# Altium schematic symbol library Sensor Package.SchLib: 91 symbols
Pins are listed as number, name and electrical type; pins without a type are passive.

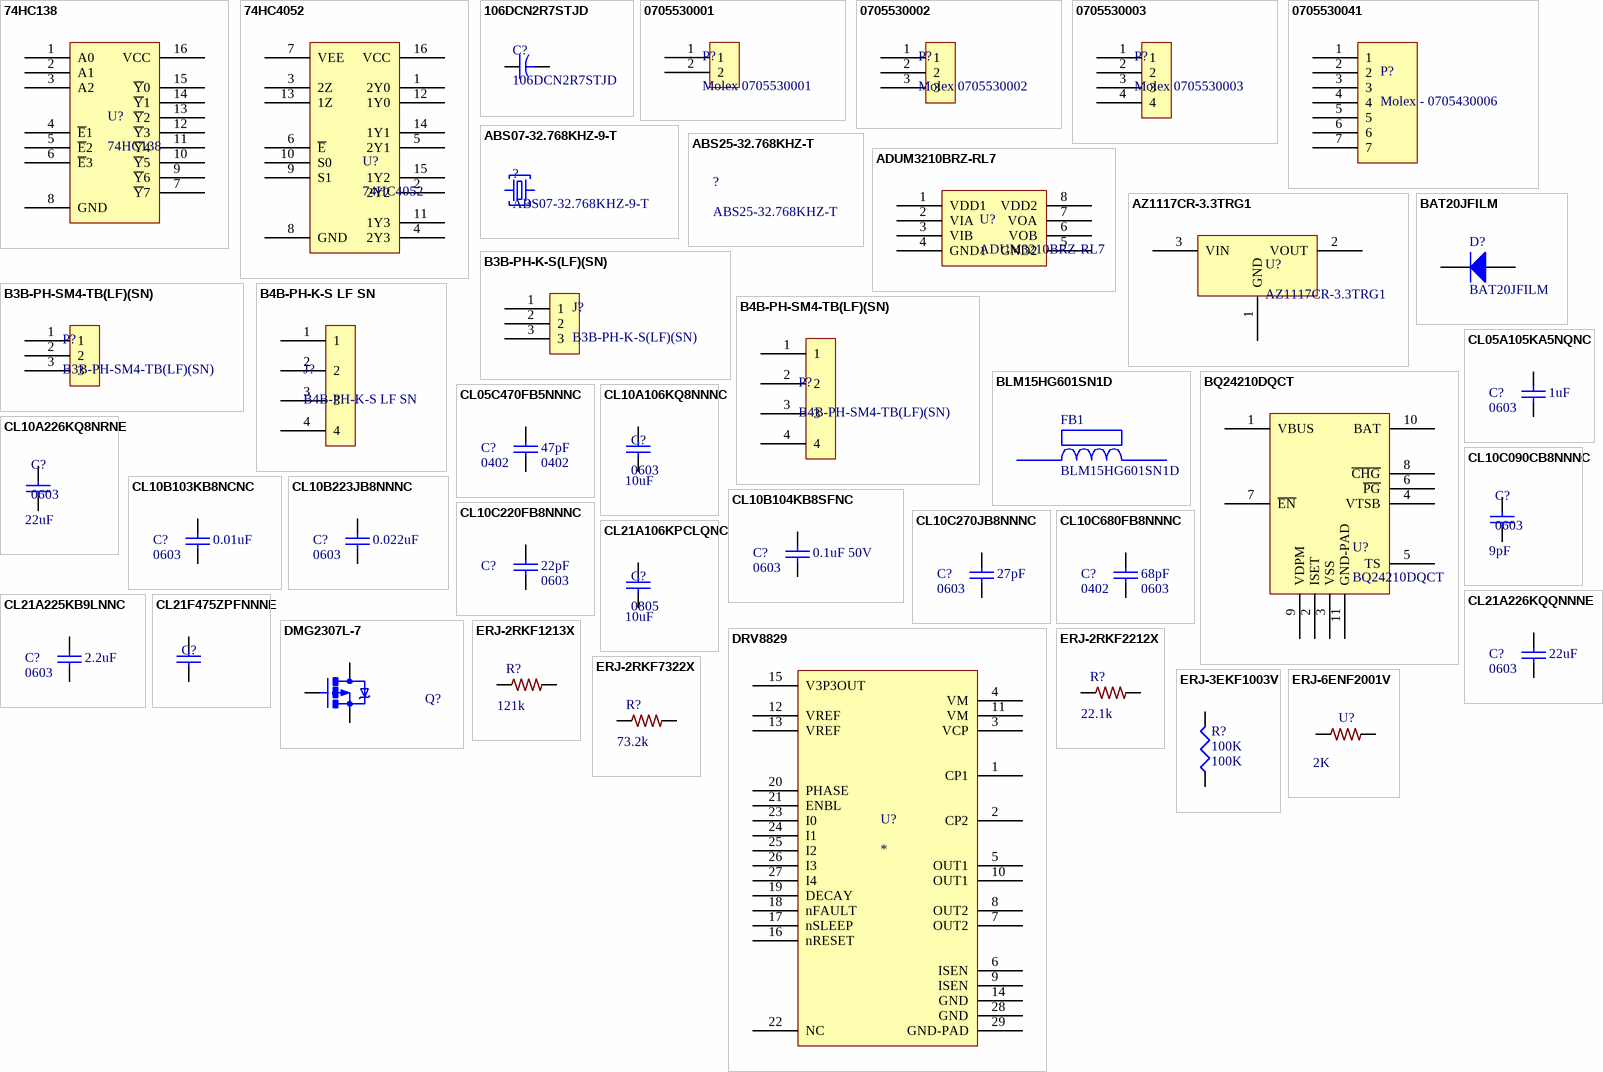
[diagram p0: symbols 74HC138 to ERJ-6ENF2001V]

## 74HC138
designator U?
3-to-8 line decoder/demultiplexer; inverting
footprint 74HC138 (SOIC, 16-Leads, Body 9.90x3.90mm, Pitch 1.27mm, IPC Medium Density)
pins: 1 A0, 2 A1, 3 A2, 4 ~{E}1, 5 ~{E}2, 6 ~{E}3, 7 ~{Y}7, 8 GND, 9 ~{Y}6, 10 ~{Y}5, 11 ~{Y}4, 12 ~{Y}3, 13 ~{Y}2, 14 ~{Y}1, 15 ~{Y}0, 16 VCC

## 74HC4052
designator U?
Dual 4-channel analog multiplexer/demultiplexer; MFR: NXP; Mouting Type: SMT; MFR#: 74HC4052; Type: 74 logic, analog mulitplexer/demultiplexer; Datasheet: http://www.nxp.com/documents/data_sheet/74HC_HCT4052.pdf
footprint 74HC4052 (SOIC, 16-Leads, Body 9.90x3.90mm, Pitch 1.27mm, IPC Medium Density)
pins: 1 2Y0, 2 2Y2, 3 2Z, 4 2Y3, 5 2Y1, 6 ~{E}, 7 VEE, 8 GND, 9 S1, 10 S0, 11 1Y3, 12 1Y0, 13 1Z, 14 1Y1, 15 1Y2, 16 VCC

## 106DCN2R7STJD
designator C?
CAP 10F -20%, +50% 2.7V T/H; MFR: Illinois Capacitor; Pin Count #: 2; Tolerance: 20%; Type: Super Capacitor; Lead-Free ?: Yes; Voltage: 2.7VDC; Designer: Adam Vadala-Roth; MFR #: 106DCN2R7STJD; Status: Available - Digikey; Mounting: Through hole; Datasheet: http://www.illinoiscapacitor.com/pdf/seriesDocuments/DCN%20series.pdf; Height: 27mm; Cost: $0.811; Date Created: 25 Feb 2016; Last Modified: 25 Feb 2016
footprint 106DCN2R7STJD
pins: 1, 2

## 0705530001
designator P?, comment Molex 0705530001
Molex 0705530002 Right Angle 2.54mm Shrouded Header; MFR: Molex; MFR#: 0705530001; Type: 2.54mm shrouded 2 pin right angle throughhole connector; Digikey #: WM4900-ND
footprint 0705530001
pins: 1, 2

## 0705530002
designator P?, comment Molex 0705530002
Molex 0705530002 Right Angle 2.54mm Shrouded Header; MFR: Molex; MFR#: 0705530002; Type: 2.54mm shrouded 3 pin right angle throughhole connector; Digikey #: WM4901-ND
footprint 0705530002
pins: 1, 2, 3

## 0705530003
designator P?, comment Molex 0705530003
Molex 0705530003 Right Angle 2.54mm Shrouded Header; MFR: Molex; MFR#: 0705530003; Type: 2.54mm shrouded 4 pin right angle throughhole connector; Digikey #: WM4902-ND
footprint 0705530003 (Molex 2.54mm 0705530003)
pins: 1, 2, 3, 4

## 0705530041
designator P?, comment Molex - 0705430006
0705530041; MFR: Molex; MFR#: 0705530041
footprint 0705530041 (Molex - 0705530041)
pins: 1, 2, 3, 4, 5, 6, 7

## ABS07-32.768KHZ-9-T
designator ?
32.768kHz ±20ppm Crystal 9pF 70 kOhm -40°C ~ 85°C Surface Mount 2-SMD; MFR: Abracon LLC; Pin Count #: 2; Lead-Free ?: Yes; Designer: Adam Vadala-Roth; MFR #: ABS07-32.768KHZ-9-T; Status: Active; Mounting: SMT/SMD; Datasheet: http://www.abracon.com/Resonators/ABS07.pdf; Height: 2.5mm; Tolerance: ±20ppm; Cost: 0.18000 @ 3K; Type: Crystal Oscillator; Voltage: *; Date Created: 11 Mar 2016; Last Modified: 11 Mar 2016; Value: *; Loading Capacitance: 9pF
footprint ABS07-32.768KHZ-9-T (Two Pin Crystal Oscilator)
pins: 1 C1, 2 C2

## ABS25-32.768KHZ-T
designator ?
32.768kHz ±20ppm Crystal 12.5pF 50 kOhm -40°C ~ 85°C Surface Mount 4-SOJ, 5.50mm pitch; MFR: Abracon LLC; Pin Count #: 2; Lead-Free ?: Yes; Designer: Adam Vadala-Roth; MFR #: ABS25-32.768KHZ-T; Status: Active; Mounting: SMT/SMD; Datasheet: http://www.abracon.com/Resonators/abs25.pdf; Height: 2.5mm; Tolerance: ±20ppm; Cost: 0.18000 @ 3K; Type: Crystal Oscillator; Voltage: *; Date Created: 11 Mar 2016; Last Modified: 11 Mar 2016; Value: *; Loading Capacitance: 12.5pF

## ADUM3210BRZ-RL7
designator U?
DGTL ISO 2.5KV GEN PURP 8SOIC; MFR: Analog Devices; RHoS?: yes; MFR#: ADUM3210BRZ-RL7; Digikey #: ADUM3210BRZ-RL7CT-ND; Type: 8 pin SOIC; Revision Date: April 2015
footprint ADUM3210BRZ-RL7 (SOIC, 8-Leads, Body 4.90x3.90mm, Pitch 1.27mm, IPC Medium Density)
pins: 1 VDD1, 2 VIA, 3 VIB, 4 GND1, 5 GND2, 6 VOB, 7 VOA, 8 VDD2

## AZ1117CR-3.3TRG1
designator U?
IC REG LDO 3.3V 0.8A SOT89; MFR: Diodes Inc; Pin Count #: 4; Lead-Free ?: Yes; Voltage: 3V3; Designer: Adam Vadala-Roth; MFR #: AZ1117CR-3.3TRG1; Status: Active; Mounting: SMT/SMD; Datasheet: http://www.diodes.com/_files/datasheets/AZ1117C.pdf; Height: *; Tolerance: *; Cost: *; Type: LDO Voltage Regulator; Date Created: 8 Mar 2016; Last Modified: 8 Mar 2016
footprint AZ1117CR-3.3TRG1 - SOT89-150P410X160-3N (SOT89, 3-Leads, Body 4.50x2.45mm, Pitch 1.50mm, Lead Span 4.1mm, IPC Medium Density)
pins: 1 GND, 2 VOUT, 3 VIN

## B3B-PH-K-S(LF)(SN)
designator J?
CONN HEADER PH TOP 3POS 2MM; MFR: JST; Pin Count #: 2; Lead-Free ?: Yes; Designer: Adam Vadala-Roth; MFR #: B3B-PH-K-S(LF)(SN); Status: Available; Mounting: Throughhole; Datasheet: http://www.jst-mfg.com/product/pdf/eng/ePH.pdf; Height: *; Tolerance: *; Cost: $0.19; Type: Connector 2mm Pitch Shrouded Pin; Voltage: *; Date Created: 26 Feb 2016; Last Modified: 26 Feb 2016
footprint B3B-PH-K-S(LF)(SN)
pins: 1, 2, 3

## B3B-PH-SM4-TB(LF)(SN)
designator P?
CONN HEADER PH SIDE 3POS 2MM SMD; MFR: JST; Pin Count #: 2; Lead-Free ?: YEs; Designer: Adam Vadala-Roth; MFR #: B3B-PH-SM4-TB(LF)(SN); Status: Available; Mounting: SMT; Datasheet: http://www.jst-mfg.com/product/pdf/eng/ePH.pdf; Height: 6.6mm; Cost: 0.26; Type: 2mm Pith Shroaded Pin Male Header; Voltage: *; Date Created: 25 Feb 2016; Last Modified: 25 Feb 2016
footprint B3B-PH-SM4-TB(LF)(SN) (3 pin SMT connector)
pins: 1, 2, 3

## B4B-PH-K-S LF SN
designator J?
CONN HEADER PH TOP 4POS 2MM; MFR #: B4B-PH-K-S(LF)(SN); MFR: JST; Pin Count #: 2; Lead-Free ?: Yes; Designer: Adam Vadala-Roth; Status: Available; Mounting: Throughhole; Datasheet: http://www.jst-mfg.com/product/pdf/eng/ePH.pdf; Height: *; Tolerance: *; Cost: $0.24; Type: Connector 2mm Pitch Shrouded Pin; Voltage: *; Date Created: 26 Feb 2016; Last Modified: 26 Feb 2016
footprint B4B-PH-K-S(LF)(SN)
pins: 1, 2, 3, 4

## B4B-PH-SM4-TB(LF)(SN)
designator P?
CONN HEADER PH SIDE 4POS 2MM SMD; MFR: JST; Pin Count #: 2; Lead-Free ?: YEs; Designer: Adam Vadala-Roth; MFR #: B4B-PH-SM4-TB(LF)(SN); Status: Available; Mounting: SMT; Datasheet: http://www.jst-mfg.com/product/pdf/eng/ePH.pdf; Height: 6.6mm; Cost: 0.26; Type: 2mm Pith Shroaded Pin Male Header; Voltage: *; Date Created: 25 Feb 2016; Last Modified: 25 Feb 2016
footprint B4B-PH-SM4-TB(LF)(SN)
pins: 1, 2, 3, 4

## BAT20JFILM
designator D?
DIODE SCHOTTKY 23V 1A SOD323; MFR: ST Microelectronics; Designer: Adam J Valala-Roth; Published: 25 Feb 2016; LatestRevisionDate: 25 Feb 2016; Mounting: SMT; Publisher: Altium Limited; Package: DO-214-AB/SMC; 2 C-Bend Leads; Body 7.9 x 5.9 mm, inc. leads (LxW); MFR#: BAT20JFILM; Digikey #: 497-3381-1-ND; Height: *; Cost: $0.44
simulation model DIODE (Diode)
signal-integrity model Diode
footprint BAT20JFILM - DIOM1712X11N (Molded Diode, 2-Leads, Body 1.66x1.23mm, IPC Medium Density)
pins: 1 A, 2 K

## BLM15HG601SN1D
designator FB1
footprint BLM18PG121SN1D (Chip Inductor, 2-Leads, Body 1.0x0.5mm, IPC Medium Density)
pins: 1, 2

## BQ24210DQCT
designator U?
IC BATT CHARGER LI-ION 10WSON (VBUS and Solar Voltaic Cell); MFR: Texas Instruments; Pin Count #: 8; Lead-Free ?: Yes; Designer: Adam J Vadala-Roth; MFR #: BQ24210DQCT; Status: Active; Mounting: SMT/SMD; Datasheet: http://www.ti.com/lit/ds/symlink/bq24210.pdf; Height: 0.8mm; Tolerance: *; Cost: *; Type: Solar Battery charger; Voltage: *; Date Created: 6 Mar 2016; Last Modified: 6 Mar 2016
footprint bq24210 - QFN50P300X200X80-10N (QFN, 10-Leads, Body 3.00x2.00mm, Pitch 0.50mm, IPC Medium Density)
pins: 1 VBUS, 2 ISET, 3 VSS, 4 VTSB, 5 TS, 6 ~{PG}, 7 ~{EN}, 8 ~{CHG}, 9 VDPM, 10 BAT, 11 GND-PAD

## CL05A105KA5NQNC
designator C?, comment 0603  value 1uF
CAP CER 1UF 25V X5R 0402; MFR Part #: CL05A105KA5NQNC; MFR: Samsung; Tolerance: 1%; Voltage: 50VDC; Published: 22 - Feb - 2016; LatestRevisionDate: April 2015; Component Type: Chip Capacitor; Part Description: CAP CER 1UF 25V X5R 0402; Mounting Type: SMT 0603; Datasheet: http://www.samsungsem.com/kr/front/downloadcms.do?path=/kr/support/product-search/mlcc/__icsFiles/afieldfile/2014/11/05&fileName=S_CL10B223JB8NNNC.pdf; Height: 0.9mm; Digikey #: 1276-1445-1-ND; PackageReference: 0603
simulation model CAP (Semiconductor Capacitor)
signal-integrity model Cap Semi
footprint C0603
pins: 1, 2

## CL05C470FB5NNNC
designator C?, comment 0402  value 47pF
CAP CER 47PF 50V NP0 0402; MFR Part #: CL05C470FB5NNNC; MFR: Samsung; Part Description: CAP CER 10PF 50V 5% NP0 0402; Tolerance: 1%; Voltage: 50VDC; Published: 10 - Dec - 2014; LatestRevisionDate: 22 - Feb - 2016; LatestRevisionNote: HydroPWNics FOotprint added; Publisher: Ultimachine; Component Type: Chip Capacitor; Mounting Type: SMT 0402; Datasheet: http://www.samsungsem.com/global/front/downloadcms.do?path=%2F%2Fglobal%2F%2Fsupport%2F%2Flibrary%2F%2Fproduct-catalog%2F%2F__icsFiles%2F%2Fafieldfile%2F%2F2015%2F%2F11%2F%2F18&fileName=MLCC_1.pdf; Height: 0.50mm; PackageReference: 0402
simulation model CAP (Semiconductor Capacitor)
signal-integrity model Cap Semi
footprint C0402
pins: 1, 2

## CL10A106KQ8NNNC
designator C?, comment 0603  value 10uF
CAP CER 10UF 6.3V X5R 0603; MFR #: CL10A106KQ8NNNC; MFR: Samsung Electro-Mechanics America, Inc.; Pin Count #: 2; Tolerance: 10%; Type: Capacitor / Passive; Lead-Free ?: Yes; Designer: Adam Vadala-Roth; Status: Available; Mounting: SMT; Datasheet: http://www.samsungsem.com/kr/support/product-search/mlcc/__icsFiles/afieldfile/2015/08/14/S_CL10A106KQ8NNNC.pdf; Height: 0.9mm; Cost: $0.05145; Voltage: 6.3V; Date Created: 25 Feb 2016; Last Modified: 25 Feb 2016
footprint C0603
pins: 1, 2

## CL10A226KQ8NRNE
designator C?, comment 0603  value 22uF
CAP CER 22UF 6.3V X5R 0603; MFR #: CL10A226KQ8NRNE; MFR: Samsung Electro-Mechanics America, Inc.; Pin Count #: 2; Tolerance: 10%; Type: Capacitor / Passive; Lead-Free ?: Yes; Designer: Adam Vadala-Roth; Status: Available; Mounting: SMT; Datasheet: https://media.digikey.com/pdf/Data%20Sheets/Samsung%20PDFs/CL10A226KQ8NRNE_Spec.pdf; Height: 0.9mm; Cost: $0.07416 @ 3000; Voltage: 6.3V; Date Created: 25 Feb 2016; Last Modified: 25 Feb 2016
footprint C0603
pins: 1, 2

## CL10B103KB8NCNC
designator C?, comment 0603  value 0.01uF
CAP CER 10000PF 50V 10% X7R 0603; MFR Part #: CL10B103KB8NCNC; MFR: Samsung; Voltage: 50VDC; Published: 10 - Dec - 2014; LatestRevisionDate: April 2015; Component Type: Chip Capacitor; Part Description: CAP CER 10000PF 50V 10% X7R 0603; Mounting Type: SMT 0603; Datasheet: http://www.samsungsem.com/kr/front/downloadcms.do?path=/kr/support/product-search/mlcc/__icsFiles/afieldfile/2014/11/05&fileName=S_CL10B103KB8NCNC.pdf; Height: 0.9mm; Tolerance: 10%; Digikey #: 1276-1921-1-ND; PackageReference: 0603
simulation model CAP (Semiconductor Capacitor)
signal-integrity model Cap Semi
footprint C0603
pins: 1, 2

## CL10B104KB8SFNC
designator C?, comment 0603  value 0.1uF 50V
CAP CER 0.1UF 50V 10% X7R 0603; MFR Part #: CL10B104KB8SFNC; MFR: Samsung; Voltage: 50VDC; Published: 10 - Dec - 2014; LatestRevisionDate: April 2015; Component Type: Chip Capacitor; Part Description: CAP CER 0.1UF 50V 10% X7R 0603; Mounting Type: SMT 0603; Datasheet: http://www.samsungsem.com/kr/front/downloadcms.do?path=/kr/support/product-search/mlcc/__icsFiles/afieldfile/2014/11/05&fileName=S_CL10B104KB8SFNC.pdf; Height: 0.9mm; Tolerance: 10%; Digikey #: 1276-1936-1-ND; PackageReference: 0603
simulation model CAP (Semiconductor Capacitor)
signal-integrity model Cap Semi
footprint C0603
pins: 1, 2

## CL10B223JB8NNNC
designator C?, comment 0603  value 0.022uF
CAP CER 0.022UF 50V 5% X7R 0603; MFR Part #: CL10B223JB8NNNC; MFR: Samsung; Tolerance: 10%; Voltage: 50VDC; Published: 10 - Dec - 2014; LatestRevisionDate: April 2015; Component Type: Chip Capacitor; Part Description: CAP CER 0.022UF 50V 5% X7R 0603; Mounting Type: SMT 0603; Datasheet: http://www.samsungsem.com/kr/front/downloadcms.do?path=/kr/support/product-search/mlcc/__icsFiles/afieldfile/2014/11/05&fileName=S_CL10B223JB8NNNC.pdf; Height: 0.9mm; Digikey #: 1276-1996-1-ND; PackageReference: 0603
simulation model CAP (Semiconductor Capacitor)
signal-integrity model Cap Semi
footprint C0603
pins: 1, 2

## CL10C090CB8NNNC
designator C?, comment 0603  value 9pF
CAP CER 9PF 50V NP0 0603; MFR #: CL10C090CB8NNNC; MFR: Samsung Electro-Mechanics America, Inc.; Pin Count #: 2; Tolerance: 10%; Type: Capacitor / Passive; Lead-Free ?: Yes; Voltage: 6.3V; Designer: Adam Vadala-Roth; Status: Available; Mounting: SMT; Datasheet: http://www.samsungsem.com/kr/support/product-search/mlcc/__icsFiles/afieldfile/2015/06/03/CL10C090CB8NNNC.pdf; Height: 0.9mm; Cost: $0.00805 @ 4000; Date Created: 11 Mar 2016; Last Modified: 11 Mar 2016
footprint C0603
pins: 1, 2

## CL10C220FB8NNNC
designator C?, comment value 22pF  (hidden comment: 0603)  (mechanical)
CAP CER 22PF 50V NP0 0603; MFR Part #: CL10C220FB8NNNC; MFR: Samsung; Tolerance: 1%; Voltage: 50VDC; Published: 22 - Feb - 2016; LatestRevisionDate: 22 - Feb - 2016; LatestRevisionNote: HydroPWNics FOotprint added; Publisher: HydroPWNics; Component Type: Chip Capacitor; Part Description: CAP CER 22PF 50V NP0 0603; Mounting Type: SMT 0603; Datasheet: http://www.samsungsem.com/global/front/downloadcms.do?path=%2F%2Fglobal%2F%2Fsupport%2F%2Flibrary%2F%2Fproduct-catalog%2F%2F__icsFiles%2F%2Fafieldfile%2F%2F2015%2F%2F11%2F%2F18&fileName=MLCC_1.pdf; Height: 0.50mm; PackageReference: 0603
simulation model CAP (Semiconductor Capacitor)
signal-integrity model Cap Semi
footprint C0603
pins: 1, 2

## CL10C270JB8NNNC
designator C?, comment 0603  value 27pF
CAP CER 27PF 50V 5% NP0 0603; MFR Part #: CL10C270JB8NNNC; MFR: Samsung; Voltage: 50VDC; Published: 10 - Dec - 2014; LatestRevisionDate: April 2015; Component Type: Chip Capacitor; Part Description: CAP CER 27PF 50V 5% NP0 0603; Mounting Type: SMT 0603; Datasheet: http://www.samsungsem.com/kr/front/downloadcms.do?path=/kr/support/product-search/mlcc/__icsFiles/afieldfile/2014/11/05&fileName=S_CL10C270JB8NNNC.pdf; Height: 0.9mm; Tolerance: 5%; Digikey #: 1276-1921-1-ND; PackageReference: 0603
simulation model CAP (Semiconductor Capacitor)
signal-integrity model Cap Semi
footprint C0603
pins: 1, 2

## CL10C680FB8NNNC
designator C?, comment 0402  value 68pF  PackageReference: 0603  (mechanical)
CAP CER 68PF 50V NP0 0603; MFR Part #: CL10C680FB8NNNC; MFR: Samsung; Tolerance: 1%; Voltage: 50VDC; Published: 22 - Feb - 2016; LatestRevisionDate: 22 - Feb - 2016; LatestRevisionNote: HydroPWNics FOotprint added; Publisher: HydroPWNics; Component Type: Chip Capacitor; Part Description: CAP CER 68PF 50V NP0 0603; Mounting Type: SMT 0603; Datasheet: https://media.digikey.com/pdf/Data%20Sheets/Samsung%20PDFs/CL10C680FB8NNNC_Spec.pdf; Height: 0.8mm
simulation model CAP (Semiconductor Capacitor)
signal-integrity model Cap Semi
footprint C0603
pins: 1, 2

## CL21A106KPCLQNC
designator C?, comment 0805  value 10uF
CAP CER 10UF 10V X5R 0805; MFR #: CL21A106KPCLQNC; MFR: Samsung Electro-Mechanics America, Inc.; Pin Count #: 2; Tolerance: 10%; Type: Capacitor / Passive; Lead-Free ?: Yes; Designer: Adam Vadala-Roth; Status: Available; Mounting: SMT; Datasheet: https://media.digikey.com/pdf/Data%20Sheets/Samsung%20PDFs/CL21A106KPCLQNC_character.pdf; Height: 0.95mm; Cost: $0.03010; Voltage: 10V; Date Created: 25 Feb 2016; Last Modified: 25 Feb 2016; Valie: 10uF
footprint C0805
pins: 1, 2

## CL21A225KB9LNNC
designator C?, comment 0603  value 2.2uF
CAP CER 2.2UF 50V 10% X5R 0805; MFR Part #: CL21A225KB9LNNC; MFR: Samsung; Voltage: 50VDC; Published: 10 - Dec - 2014; LatestRevisionDate: April 2015; Component Type: Chip Capacitor; Part Description: CAP CER 2.2UF 50V 10% X5R 0805; Mounting Type: SMT 0805; Datasheet: http://www.samsungsem.com/kr/front/downloadcms.do?path=/kr/support/product-search/mlcc/__icsFiles/afieldfile/2014/11/05&fileName=S_CL21A225KB9LNNC.pdf; Height: 1mm; Tolerance: 10%; Digikey #: 1276-2409-1-ND; PackageReference: 0805
simulation model CAP (Semiconductor Capacitor)
signal-integrity model Cap Semi
footprint C0805
pins: 1, 2

## CL21A226KQQNNNE
designator C?, comment 0603  value 22uF
CAP CER 22UF 6.3V 10% X5R 0805; MFR Part #: CL21A226KQQNNNE; MFR: Samsung; Voltage: 6.3VDC; Published: April 2015; LatestRevisionDate: April 2015; Component Type: Chip Capacitor; Part Description: CAP CER 22UF 6.3V 10% X5R 0805; Mounting Type: SMT 0805; Datasheet: http://www.digikey.com/product-detail/en/CL21A226KQQNNNE/1276-2907-2-ND/3888565; Height: 1mm; Tolerance: 10%; Digikey #: 1276-2907-2-ND; PackageReference: 0805
simulation model CAP (Semiconductor Capacitor)
signal-integrity model Cap Semi
footprint C0805
pins: 1, 2

## CL21F475ZPFNNNE
designator C?  (value not drawn)
CAP CER 4.7UF 10V Y5V 0805; MFR: Samsung Electro-Mechanics America, Inc.; Pin Count #: 2; Tolerance: 20%; Type: Capacitor/Passive; Lead-Free ?: Yes; Designer: Adam Vadala-Roth; MFR #: CL21F475ZPFNNNE; Status: Available; Mounting: SMT; Datasheet: http://www.samsungsem.com/kr/support/product-search/mlcc/__icsFiles/afieldfile/2015/08/14/S_CL21F475ZPFNNNE.pdf; Height: 1.35mm; Cost: 0.01505; Voltage: 10V; Date Created: 25 Feb 2016; Last Modified: 25 Feb 2016
footprint C0805
pins: 1, 2

## DMG2307L-7
designator Q?  (value not drawn)
MOSFET P-CH 30V 2.5A SOT-23; MFR: Diodes Incorporated; Published: 25 Feb 2016; LatestRevisionDate: 25 Feb 2016; LatestRevisionNote: IPC-7351 Footprint Added.; PackageReference: SOT23 SMT package; Publisher: Adam Vadala-Roth; PackageDescription: SOT23; MFR#: DMG2307L-7
footprint DMG2307L-7 - SOT92P240X102-3N (SOT23, 3-Leads, Body 2.85x2.40mm, Pitch 0.92mm, IPC Medium Density)
pins: 1 G, 2 S, 3 D

## DRV8829
designator U?
IC MOTOR DRIVER PAR 28HTSSOP; MFR: Texas Instruments; MFR #: DRV8829PWPR; RHos: Yes; Datasheet: https://www.ti.com/lit/ds/symlink/drv8829.pdf; Digikey #: 296-28829-1-ND
footprint TSSOP28-DRV8829 (TSOP, 28-Leads, Body 9.70x4.40mm, Pitch 0.65mm, Thermal Pad 5.22x3.10mm, IPC Medium Density)
pins: 1 CP1, 2 CP2, 3 VCP, 4 VM, 5 OUT1, 6 ISEN, 7 OUT2, 8 OUT2, 9 ISEN, 10 OUT1, 11 VM, 12 VREF, 13 VREF, 14 GND, 15 V3P3OUT, 16 nRESET, 17 nSLEEP, 18 nFAULT, 19 DECAY, 20 PHASE, 21 ENBL, 22 NC, 23 I0, 24 I1, 25 I2, 26 I3, 27 I4, 28 GND, 29 GND-PAD

## ERJ-2RKF1213X
designator R?, comment 121k
RES SMD 121K OHM 1% 1/10W 0402; Manufacturer: Panasonic; ManufacturerPartNumber: ERJ-2RKF1213X; LastRevisionNote: ImportComponents; Heigh: 0.5mm; Published: 22-Feb-2016; Publisher: Adam; LastRevisionDate: 23-Apr-2014; PDF: http://industrial.panasonic.com/www-cgi/jvcr13pz.cgi?E+PZ+3+AOA0002+ERJ2RKF1213X+7+WW; VALUE: 121k
signal-integrity model Model Name (Model Description)
simulation model Model Name (Model Description)
footprint R0402
pins: 1, 2

## ERJ-2RKF2212X
designator R?, comment 22.1k
RES SMD 22.1K OHM 1% 1/10W 0402; Manufacturer: Panasonic; ManufacturerPartNumber: ERJ-2RKF2212X; LastRevisionNote: ImportComponents; Heigh: 0.5mm; Published: 22-Feb-2016; Publisher: Adam; LastRevisionDate: 23-Apr-2014; PDF: http://industrial.panasonic.com/www-cgi/jvcr13pz.cgi?E+PZ+3+AOA0002+ERJ2RKF7322X+7+WW; VALUE: 22.1k
signal-integrity model Model Name (Model Description)
simulation model Model Name (Model Description)
footprint R0402
pins: 1, 2

## ERJ-2RKF7322X
designator R?, comment 73.2k
RES SMD 73.2K OHM 1% 1/10W 0402; Manufacturer: Panasonic; ManufacturerPartNumber: ERJ-2RKF7322X; LastRevisionNote: ImportComponents; Heigh: 0.5mm; Published: 22-Feb-2016; Publisher: Adam; LastRevisionDate: 23-Apr-2014; PDF: http://industrial.panasonic.com/www-cgi/jvcr13pz.cgi?E+PZ+3+AOA0002+ERJ2RKF7322X+7+WW; VALUE: 73.2k
signal-integrity model Model Name (Model Description)
simulation model Model Name (Model Description)
footprint R0402
pins: 1, 2

## ERJ-3EKF1003V
designator R?, comment 100K
RES SMD 100K OHM 1% 1/10W 0603; MFR: Panasonic; MFR #: ERJ-3EKF1003V; PackageReference: 0603; Digikey #: P100KHCT-ND; PDF: http://industrial.panasonic.com/www-cgi/jvcr13pz.cgi?E+PZ+3+AOA0002+ERJ3EKF1003V+7+WW; Value: 100K
simulation model RESISTOR (Resistor)
signal-integrity model Res
footprint R0603
pins: 1, 2

## ERJ-6ENF2001V
designator U?  value 2K  (hidden comment: ERJ-6ENF2001V)
RES SMD 2K OHM 1% 1/8W 0805; MFR: Panasonic Electronic Components; Pin Count #: 2; Lead-Free ?: Yes; Designer: Adam Vadala-Roth; MFR #: ERJ-6ENF2001V; Status: Active; Mounting: SMT/SMD; Datasheet: http://industrial.panasonic.com/www-cgi/jvcr13pz.cgi?E+PZ+3+AOA0002+ERJ6ENF2001V+7+WW; Height: 0.7mm; Tolerance: 1%; Cost: *; Type: Chip Resistor/Passive; Voltage: *; Date Created: 10 Mar 2016; Last Modified: 10 Mar 2016
footprint R0805
pins: 1, 2

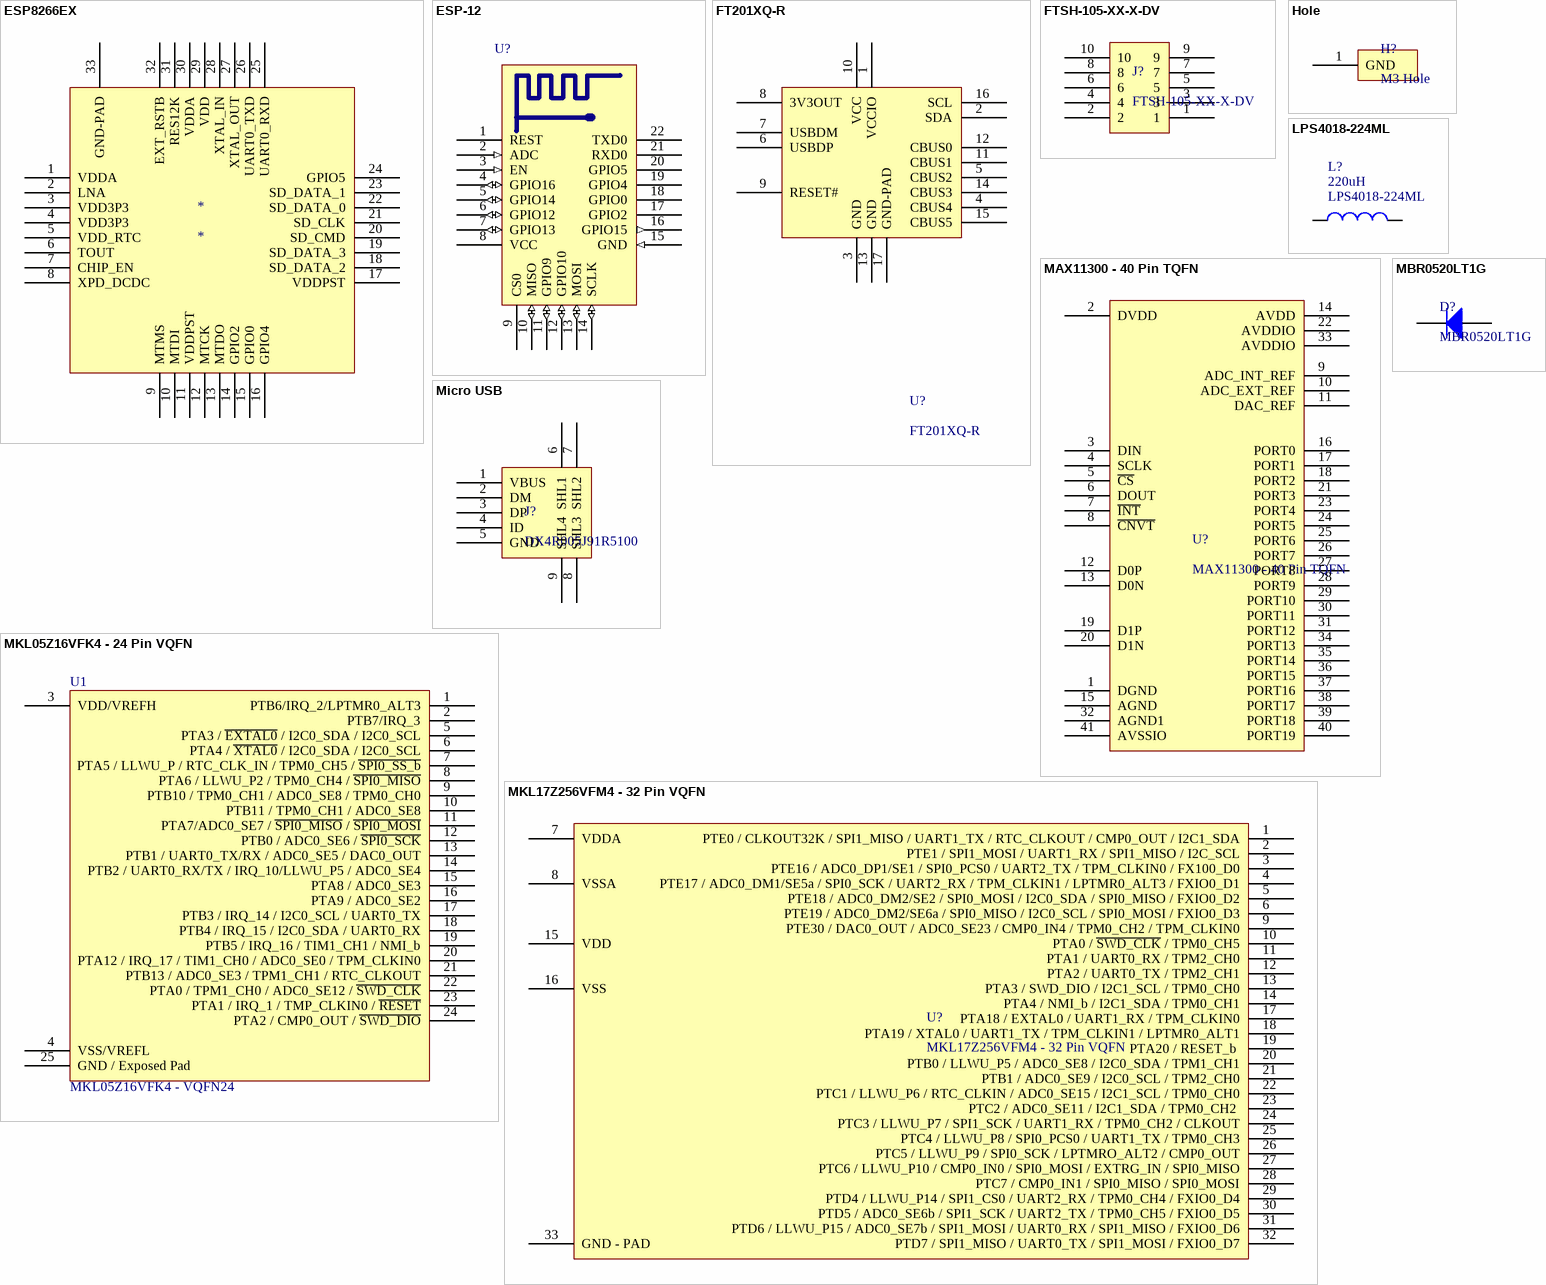
[diagram p1: symbols ESP8266EX to MKL17Z256VFM4 - 32 Pin VQFN]

## ESP8266EX
designator *
footprint ESP8266EX (QFN, 32-Leads, Body 5.00x5.00mm, Pitch 0.50mm, Thermal Pad 3.70x3.70mm, IPC Medium Density)
pins: 1 VDDA, 2 LNA, 3 VDD3P3, 4 VDD3P3, 5 VDD_RTC, 6 TOUT, 7 CHIP_EN, 8 XPD_DCDC, 9 MTMS, 10 MTDI, 11 VDDPST, 12 MTCK, 13 MTDO, 14 GPIO2, 15 GPIO0, 16 GPIO4, 17 VDDPST, 18 SD_DATA_2, 19 SD_DATA_3, 20 SD_CMD, 21 SD_CLK, 22 SD_DATA_0, 23 SD_DATA_1, 24 GPIO5, 25 UART0_RXD, 26 UART0_TXD, 27 XTAL_OUT, 28 XTAL_IN, 29 VDD, 30 VDDA, 31 RES12K, 32 EXT_RSTB, 33 GND-PAD

## ESP-12
designator U?, comment ESP-12E  (value not drawn)
Sketchy Chinese ESP8266 Board with Fake FCC Bullshit
footprint ESP8266 ESP-12E
pins: 1 REST, 2 ADC (in), 3 EN (in), 4 GPIO16 (io), 5 GPIO14 (io), 6 GPIO12 (io), 7 GPIO13 (io), 8 VCC (power), 9 CS0 (power), 10 MISO (io), 11 GPIO9 (io), 12 GPIO10 (io), 13 MOSI (io), 14 SCLK (io), 15 GND (in), 16 GPIO15 (out), 17 GPIO2, 18 GPIO0, 19 GPIO4, 20 GPIO5, 21 RXD0, 22 TXD0

## FT201XQ-R
designator U?
IC USB FS I2C 16QFN; MFR: FTDI; Pin Count #: 16; Lead-Free ?: yes; Voltage: 3V3/5V; Designer: Adam Vadala-Roth; MFR #: FT201XQ-R; Status: Active; Mounting: SMT/SMD; Datasheet: http://www.ftdichip.com/Support/Documents/DataSheets/ICs/DS_FT201X.pdf; Height: 0.8mm; Tolerance: *; Cost: *; Type: USB to I2C converter; Date Created: 14 Mar 2016; Last Modified: 14 Mar 2016
footprint FT201XQ-R - QFN65P400X400X80_HS-17N (QFN, 16-Leads, Body 4.00x4.00mm, Pitch 0.65mm, Thermal Pad 2.08x2.08mm, IPC Medium Density)
pins: 1 VCCIO, 2 SDA, 3 GND, 4 CBUS4, 5 CBUS2, 6 USBDP, 7 USBDM, 8 3V3OUT, 9 RESET#, 10 VCC, 11 CBUS1, 12 CBUS0, 13 GND, 14 CBUS3, 15 CBUS5, 16 SCL, 17 GND-PAD

## FTSH-105-XX-X-DV
designator J?
FTSH-105-XX-X-DV ARM COrtex JTAG; MFR #: FTSH-105-XX-X-DV; MFR: *; Status: *; Pin Count #: *; Mounting: *; Datasheet: *; Height: *; Tolerance: *; Cost: *; Type: *; Lead-Free ?: *; Voltage: *; Date Created: *; Last Modified: *; Designer: *
footprint FTSH-105-XX-X-DV (1.27mm pitch, 10 pin, terminal strip; vertical, SMT)
pins: 1, 2, 3, 4, 5, 6, 7, 8, 9, 10

## Hole
designator H?, comment M3 Hole
3mm Hole
footprint Hole-3mm
pins: 1 GND

## LPS4018-224ML
designator L?  value 220uH
Inductor; MFR: Coilcraft; Published: 8-Jun-2000; LatestRevisionDate: April 2015; PackageReference: Coilcraft Custom; Publisher: Altium Limited; PackageDescription: Custom Wound SMD Inductor; MFR#: LPS4018-224ML; Height: 1.7mm
simulation model INDUCTOR (Inductor)
signal-integrity model Inductor
footprint LPS4018-224ML (Precision Wire Wound Inductor, 2-Leads, Body 4.40x3.90mm, IPC Medium Density)
pins: 1, 2

## MAX11300 - 40 Pin TQFN
designator U?
MAX11300
footprint Maxim T4066+3 40 pin TQFN (QFN, 40-Leads, Body 6.00x6.00mm, Pitch 0.50mm, Thermal Pad 4.10x4.10mm, IPC Medium Density)
footprint MAXIM C48E+8 48 Pin TQFP (TSQFP, 48-Leads, Body 7.00x7.00mm, Pitch 0.50mm, Thermal Pad 5.30x5.30mm, IPC Medium Density)
pins: 1 DGND, 2 DVDD, 3 DIN, 4 SCLK, 5 ~{CS}, 6 DOUT, 7 ~{INT}, 8 ~{CNVT}, 9 ADC_INT_REF, 10 ADC_EXT_REF, 11 DAC_REF, 12 D0P, 13 D0N, 14 AVDD, 15 AGND, 16 PORT0, 17 PORT1, 18 PORT2, 19 D1P, 20 D1N, 21 PORT3, 22 AVDDIO, 23 PORT4, 24 PORT5, 25 PORT6, 26 PORT7, 27 PORT8, 28 PORT9, 29 PORT10, 30 PORT11, 31 PORT12, 32 AGND1, 33 AVDDIO, 34 PORT13, 35 PORT14, 36 PORT15, 37 PORT16, 38 PORT17, 39 PORT18, 40 PORT19, 41 AVSSIO

## MBR0520LT1G
designator D?
DIODE SCHOTTKY 20V 500MA SOD123; MFR: ON Semiconductor; Type: Diode Molded; Lead-Free ?: Yes; Voltage: 20VDC; Designer: Adam Vadala-Roth; MFR #: MBR0520LT1G; Status: Available; Pin Count #: *; Mounting: *; Datasheet: http://www.onsemi.com/pub_link/Collateral/MBR0520LT1-D.PDF; Tolerance: *; Cost: $ 0.05658; Date Created: 25 Feb 2016; Last Modified: 25 Feb 2016; Package: SOD-123 Molded Plastic Diode Package; Current: 500mA
footprint MBR0520LT1G - DIOM2716X14N (Molded Diode, 2-Leads, Body 2.69x1.60mm, IPC Medium Density)
pins: 1 A, 2 K

## Micro USB
designator J?, comment DX4R005J91R5100
Micro USB Jack B
footprint Micro USB Circular Holes Only
pins: 1 VBUS, 2 DM, 3 DP, 4 ID, 5 GND, 6 SHL1, 7 SHL2, 8 SHL3, 9 SHL4

## MKL05Z16VFK4 - 24 Pin VQFN
designator U1, comment MKL05Z16VFK4 - VQFN24
ARM Cortex M0+
footprint 98ASA00474D (QFN, 24-Leads, Body 3.98x3.98mm, Pitch 0.50mm, Thermal Pad 2.80x2.80mm, IPC Medium Density)
pins: 1 PTB6/IRQ_2/LPTMR0_ALT3, 2 PTB7/IRQ_3, 3 VDD/VREFH, 4 VSS/VREFL, 5 PTA3 / ~{EXTAL0} / I2C0_SDA / I2C0_SCL, 6 PTA4 / ~{XTAL0} / I2C0_SDA / I2C0_SCL, 7 PTA5 / LLWU_P / RTC_CLK_IN / TPM0_CH5 / ~{SPI0_SS_b}, 8 PTA6 / LLWU_P2 / TPM0_CH4 / ~{SPI0_MISO}, 9 PTB10 / TPM0_CH1 / ADC0_SE8 / TPM0_CH0, 10 PTB11 / TPM0_CH1 / ADC0_SE8, 11 PTA7/ADC0_SE7 / ~{SPI0_MISO} / ~{SPI0_MOSI}, 12 PTB0 / ADC0_SE6 / ~{SPI0_SCK}, 13 PTB1 / UART0_TX/RX / ADC0_SE5 / DAC0_OUT, 14 PTB2 / UART0_RX/TX / IRQ_10/LLWU_P5 / ADC0_SE4, 15 PTA8 / ADC0_SE3, 16 PTA9 / ADC0_SE2, 17 PTB3 / IRQ_14 / I2C0_SCL / UART0_TX, 18 PTB4 / IRQ_15 / I2C0_SDA / UART0_RX, 19 PTB5 / IRQ_16 / TIM1_CH1 / NMI_b, 20 PTA12 / IRQ_17 / TIM1_CH0 / ADC0_SE0 / TPM_CLKIN0, 21 PTB13 / ADC0_SE3 / TPM1_CH1 / RTC_CLKOUT, 22 PTA0 / TPM1_CH0 / ADC0_SE12 / ~{SWD_CLK}, 23 PTA1 / IRQ_1 / TMP_CLKIN0 / ~{RESET}, 24 PTA2 / CMP0_OUT / ~{SWD_DIO}, 25 GND / Exposed Pad

## MKL17Z256VFM4 - 32 Pin VQFN
designator U?
ARM Cortex M0+ Microcontroller for Low Power Applications, MKL1x Series; MFR: NXP - FreeScale; Pin Count #: 32; Lead-Free ?: Yes; Voltage: 1.7-3.3VDC; Designer: Adam Vadala-Roth; MFR #: MKL17Z256VFM4; Status: Active; Mounting: SMT/SMD; Datasheet: *; Height: *; Tolerance: *; Cost: *; Type: IC; Date Created: 9 Mar 2016; Last Modified: 9 Mar 2016
footprint MKL17Z256VFM4 - QFN50P500X500X65_HS-33N (QFN, 32-Leads, Body 5.00x5.00mm, Pitch 0.50mm, Thermal Pad 3.60x3.60mm, IPC Medium Density)
pins: 1 PTE0 / CLKOUT32K / SPI1_MISO / UART1_TX / RTC_CLKOUT / CMP0_OUT / I2C1_SDA, 2 PTE1 / SPI1_MOSI / UART1_RX / SPI1_MISO / I2C_SCL, 3 PTE16 / ADC0_DP1/SE1 / SPI0_PCS0 / UART2_TX / TPM_CLKIN0 / FX100_D0, 4 PTE17 / ADC0_DM1/SE5a / SPI0_SCK / UART2_RX / TPM_CLKIN1 / LPTMR0_ALT3 / FXIO0_D1, 5 PTE18 / ADC0_DM2/SE2 / SPI0_MOSI / I2C0_SDA / SPI0_MISO / FXIO0_D2, 6 PTE19 / ADC0_DM2/SE6a / SPI0_MISO / I2C0_SCL / SPI0_MOSI / FXIO0_D3, 7 VDDA, 8 VSSA, 9 PTE30 / DAC0_OUT / ADC0_SE23 / CMP0_IN4 / TPM0_CH2 / TPM_CLKIN0, 10 PTA0 / ~{SWD_CLK} / TPM0_CH5, 11 PTA1 / UART0_RX / TPM2_CH0, 12 PTA2 / UART0_TX / TPM2_CH1, 13 PTA3 / SWD_DIO / I2C1_SCL / TPM0_CH0, 14 PTA4 / NMI_b / I2C1_SDA / TPM0_CH1, 15 VDD, 16 VSS, 17 PTA18 / EXTAL0 / UART1_RX / TPM_CLKIN0, 18 PTA19 / XTAL0 / UART1_TX / TPM_CLKIN1 / LPTMR0_ALT1, 19 PTA20 / RESET_b , 20 PTB0 / LLWU_P5 / ADC0_SE8 / I2C0_SDA / TPM1_CH1, 21 PTB1 / ADC0_SE9 / I2C0_SCL / TPM2_CH0, 22 PTC1 / LLWU_P6 / RTC_CLKIN / ADC0_SE15 / I2C1_SCL / TPM0_CH0, 23 PTC2 / ADC0_SE11 / I2C1_SDA / TPM0_CH2 , 24 PTC3 / LLWU_P7 / SPI1_SCK / UART1_RX / TPM0_CH2 / CLKOUT, 25 PTC4 / LLWU_P8 / SPI0_PCS0 / UART1_TX / TPM0_CH3, 26 PTC5 / LLWU_P9 / SPI0_SCK / LPTMRO_ALT2 / CMP0_OUT, 27 PTC6 / LLWU_P10 / CMP0_IN0 / SPI0_MOSI / EXTRG_IN / SPI0_MISO, 28 PTC7 / CMP0_IN1 / SPI0_MISO / SPI0_MOSI, 29 PTD4 / LLWU_P14 / SPI1_CS0 / UART2_RX / TPM0_CH4 / FXIO0_D4, 30 PTD5 / ADC0_SE6b / SPI1_SCK / UART2_TX / TPM0_CH5 / FXIO0_D5, 31 PTD6 / LLWU_P15 / ADC0_SE7b / SPI1_MOSI / UART0_RX / SPI1_MISO / FXIO0_D6, 32 PTD7 / SPI1_MISO / UART0_TX / SPI1_MOSI / FXIO0_D7, 33 GND - PAD

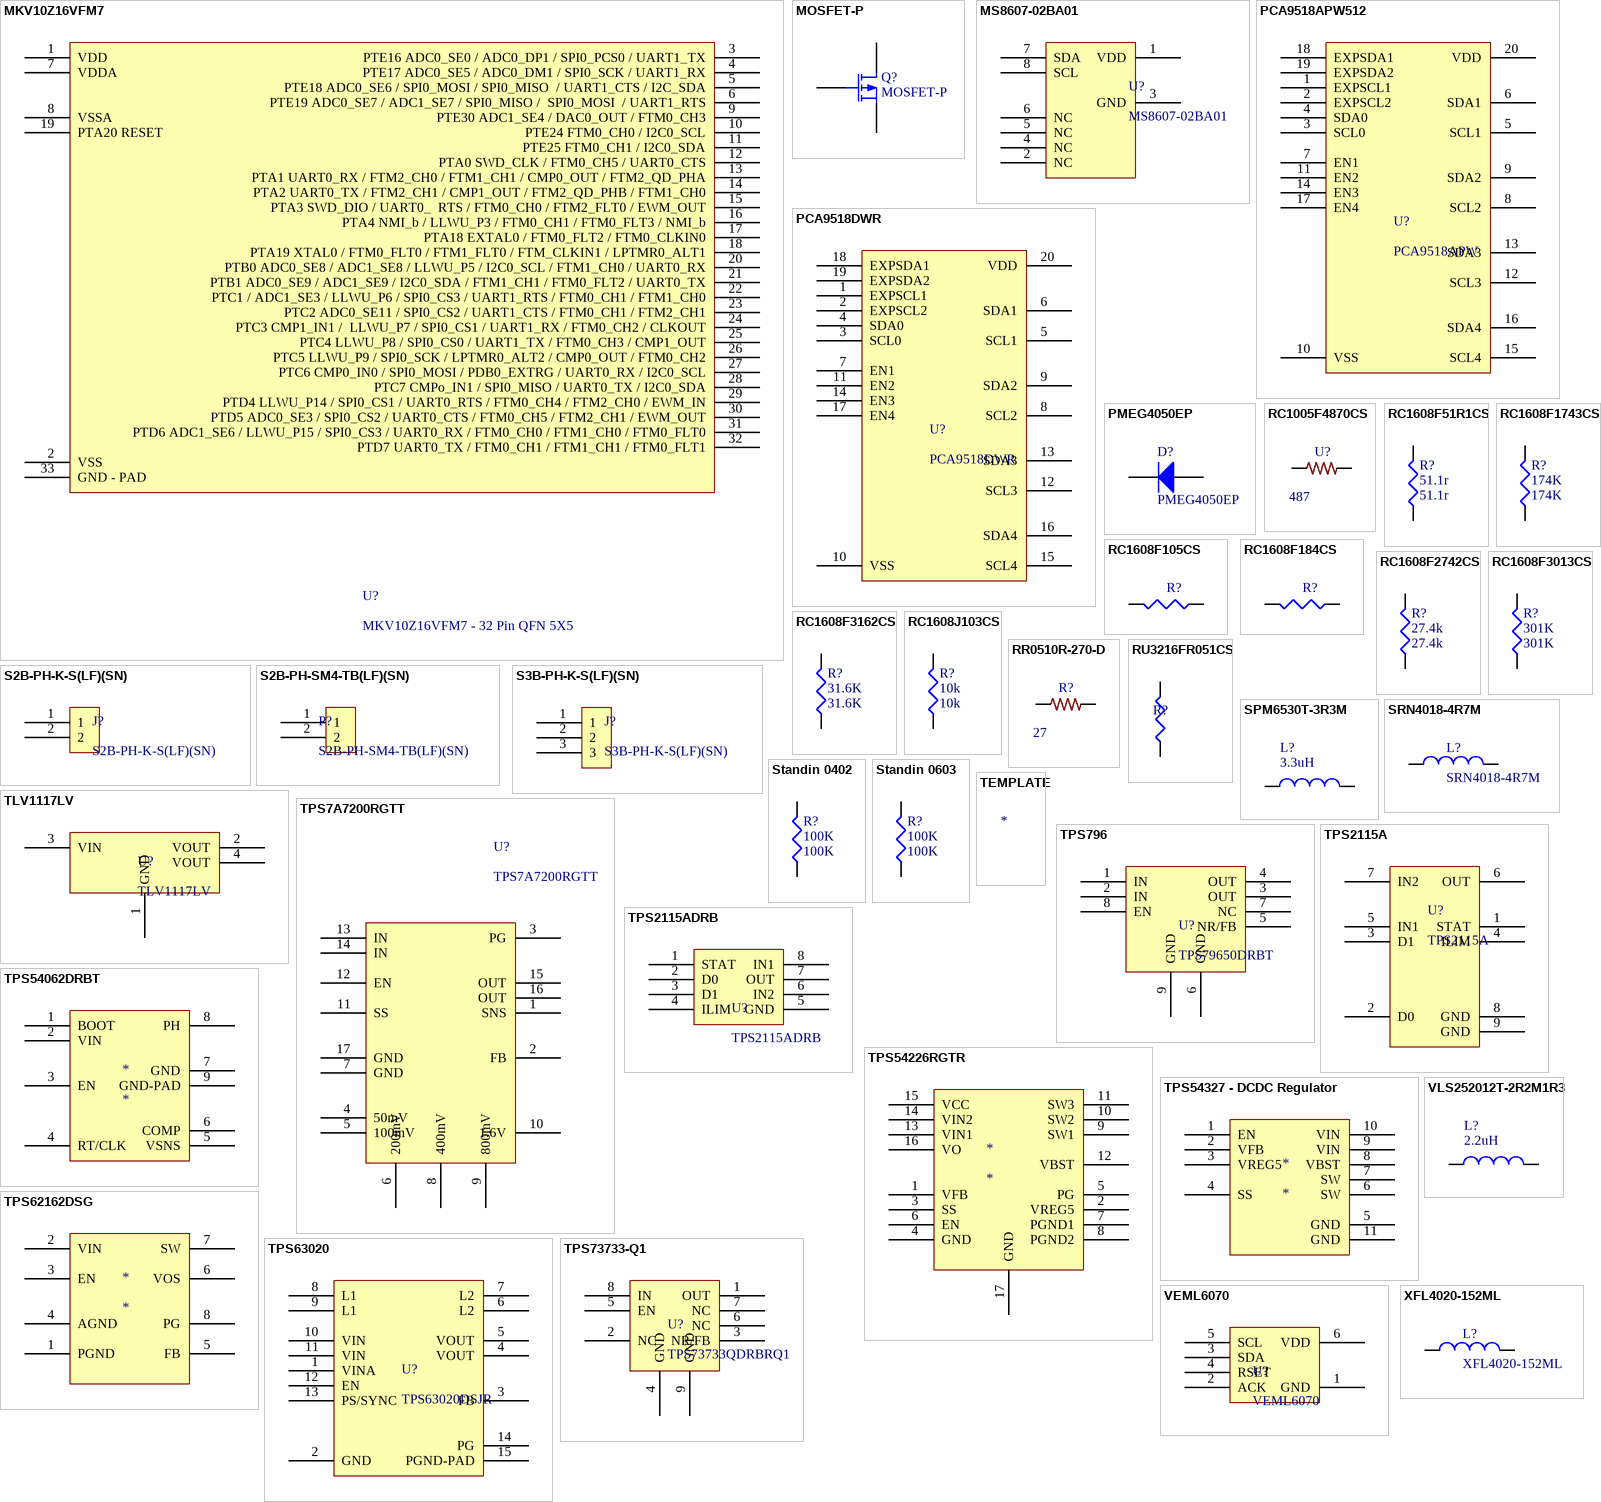
[diagram p2: symbols MKV10Z16VFM7 to XFL4020-152ML]

## MKV10Z16VFM7
designator U?, comment MKV10Z16VFM7 - 32 Pin QFN 5X5
IC MCU ARM Cortex M0+ 16KB 32QFN 75MHZ; MFR: FreeScale; MFR#: MKV10Z16VFM7; height: 1mm; Price: $2.50
footprint MKV10Z16VFM7 (QFN, 32-Leads, Body 5.00x5.00mm, Pitch 0.50mm, Thermal Pad 3.60x3.60mm, IPC Medium Density)
pins: 1 VDD, 2 VSS, 3 PTE16 ADC0_SE0 / ADC0_DP1 / SPI0_PCS0 / UART1_TX, 4 PTE17 ADC0_SE5 / ADC0_DM1 / SPI0_SCK / UART1_RX, 5 PTE18 ADC0_SE6 / SPI0_MOSI / SPI0_MISO  / UART1_CTS / I2C_SDA, 6 PTE19 ADC0_SE7 / ADC1_SE7 / SPI0_MISO /  SPI0_MOSI  / UART1_RTS, 7 VDDA, 8 VSSA, 9 PTE30 ADC1_SE4 / DAC0_OUT / FTM0_CH3, 10 PTE24 FTM0_CH0 / I2C0_SCL, 11 PTE25 FTM0_CH1 / I2C0_SDA, 12 PTA0 SWD_CLK / FTM0_CH5 / UART0_CTS, 13 PTA1 UART0_RX / FTM2_CH0 / FTM1_CH1 / CMP0_OUT / FTM2_QD_PHA, 14 PTA2 UART0_TX / FTM2_CH1 / CMP1_OUT / FTM2_QD_PHB / FTM1_CH0, 15 PTA3 SWD_DIO / UART0_  RTS / FTM0_CH0 / FTM2_FLT0 / EWM_OUT, 16 PTA4 NMI_b / LLWU_P3 / FTM0_CH1 / FTM0_FLT3 / NMI_b, 17 PTA18 EXTAL0 / FTM0_FLT2 / FTM0_CLKIN0, 18 PTA19 XTAL0 / FTM0_FLT0 / FTM1_FLT0 / FTM_CLKIN1 / LPTMR0_ALT1, 19 PTA20 RESET, 20 PTB0 ADC0_SE8 / ADC1_SE8 / LLWU_P5 / I2C0_SCL / FTM1_CH0 / UART0_RX, 21 PTB1 ADC0_SE9 / ADC1_SE9 / I2C0_SDA / FTM1_CH1 / FTM0_FLT2 / UART0_TX, 22 PTC1 / ADC1_SE3 / LLWU_P6 / SPI0_CS3 / UART1_RTS / FTM0_CH1 / FTM1_CH0, 23 PTC2 ADC0_SE11 / SPI0_CS2 / UART1_CTS / FTM0_CH1 / FTM2_CH1, 24 PTC3 CMP1_IN1 /  LLWU_P7 / SPI0_CS1 / UART1_RX / FTM0_CH2 / CLKOUT, 25 PTC4 LLWU_P8 / SPI0_CS0 / UART1_TX / FTM0_CH3 / CMP1_OUT, 26 PTC5 LLWU_P9 / SPI0_SCK / LPTMR0_ALT2 / CMP0_OUT / FTM0_CH2, 27 PTC6 CMP0_IN0 / SPI0_MOSI / PDB0_EXTRG / UART0_RX / I2C0_SCL, 28 PTC7 CMPo_IN1 / SPI0_MISO / UART0_TX / I2C0_SDA, 29 PTD4 LLWU_P14 / SPI0_CS1 / UART0_RTS / FTM0_CH4 / FTM2_CH0 / EWM_IN, 30 PTD5 ADC0_SE3 / SPI0_CS2 / UART0_CTS / FTM0_CH5 / FTM2_CH1 / EWM_OUT, 31 PTD6 ADC1_SE6 / LLWU_P15 / SPI0_CS3 / UART0_RX / FTM0_CH0 / FTM1_CH0 / FTM0_FLT0, 32 PTD7 UART0_TX / FTM0_CH1 / FTM1_CH1 / FTM0_FLT1, 33 GND - PAD

## MOSFET-P
designator Q?
P-Channel MOSFET; Published: 8-Jun-2000; LatestRevisionDate: 17-Jul-2002; LatestRevisionNote: Re-released for DXP Platform.; PackageVersion: 1995/1996; PackageReference: E3; Publisher: Altium Limited; PackageDescription: TO, Flat Index; 3 In-Line, Axial Leads; Body Dia. 4.6mm; Lead Dia. 0.5 mm (max)
footprint E3 (TO, Flat Index; 3 In-Line, Axial Leads; Body Dia. 4.6mm; Lead Dia. 0.5 mm (max))
simulation model PMOS (MOSFET-P)
pins: 1 D, 2 G, 3 S

## MS8607-02BA01
designator U?
PRESSURE TEMP HUMIDITY SENSOR; MFR: TE Connectivity Measurement Specialties; Pin Count #: 8; Lead-Free ?: Yes; Voltage: 3.6VDC Max; Designer: Adam Vadala-Roth; MFR #: MS8607-02BA01; Status: Active; Mounting: SMT/SMD; Datasheet: http://www.meas-spec.com/downloads/MS8607-02BA01.pdf; Height: *; Tolerance: *; Cost: *; Type: Sensor IC; Date Created: 9 Mar 2016; Last Modified: 9 Mar 2016
footprint MS8607-02BA01 - QFN125P470X300X95-8N (QFN, 8-Leads, Body 4.70x3.00mm, Pitch 1.25mm, IPC Medium Density)
pins: 1 VDD, 2 NC, 3 GND, 4 NC, 5 NC, 6 NC, 7 SDA, 8 SCL

## PCA9518APW512
designator U?, comment PCA9518APW
IC I2C HUB 5CH EXPANDBL 20-TSSOP; MFR: NXP; MFR#: PCA9518APW,512; Type: I2C Hub SOIC8; Date Added: April 2015; Digikey#: 568-4245-5-ND
footprint PCA9518APW,512 (SOIC, 20-Leads, Body 12.80x7.50mm, Pitch 1.27mm, IPC Medium Density)
pins: 1 EXPSCL1, 2 EXPSCL2, 3 SCL0, 4 SDA0, 5 SCL1, 6 SDA1, 7 EN1, 8 SCL2, 9 SDA2, 10 VSS, 11 EN2, 12 SCL3, 13 SDA3, 14 EN3, 15 SCL4, 16 SDA4, 17 EN4, 18 EXPSDA1, 19 EXPSDA2, 20 VDD

## PCA9518DWR
designator U?
IC EXPANDABLE 5CH I2C HUB 20SOIC; MFR: Ti; MFR#: PCA9518DWR; Type: I2C Hub 20 Pin SOIC; Date Added: April 2015; Digikey#: 296-22766-1-ND
footprint PCA9518DWR (SOP, 20-Leads, Body 8.65x3.90mm, Pitch 0.64mm, Thermal Pad 5.22x3.10mm, IPC Medium Density)
pins: 1 EXPSCL1, 2 EXPSCL2, 3 SCL0, 4 SDA0, 5 SCL1, 6 SDA1, 7 EN1, 8 SCL2, 9 SDA2, 10 VSS, 11 EN2, 12 SCL3, 13 SDA3, 14 EN3, 15 SCL4, 16 SDA4, 17 EN4, 18 EXPSDA1, 19 EXPSDA2, 20 VDD

## PMEG4050EP
designator D?
PMEG4050EP , Schottky Diode; Published: 8-Jun-2000; LatestRevisionDate: 17-Jul-2002; LatestRevisionNote: Re-released for DXP Platform.; PackageVersion: Sep-1996; PackageReference: SMC; Publisher: Altium Limited; PackageDescription: DO-214-AB/SMC; 2 C-Bend Leads; Body 7.9 x 5.9 mm, inc. leads (LxW); Code_JEDEC: DO-214-AB
simulation model DIODE (Diode)
signal-integrity model Diode
footprint PMEG4050EP (Molded Diode, 2-Leads, Body 3.80x2.50mm, IPC Medium Density)
pins: 1 A, 2 K

## RC1005F4870CS
designator U?  value 487  (hidden comment: RC1005F4870CS)
RES SMD 487 OHM 1% 1/16W 0402; MFR: Samsung Electro-Mechanics America, Inc.; Pin Count #: 2; Lead-Free ?: Yes; Designer: Adam Vadala-Roth; MFR #: RC1005F4870CS; Status: Active; Mounting: SMT/SMD; Datasheet: http://industrial.panasonic.com/www-cgi/jvcr13pz.cgi?E+PZ+3+AOA0002+ERJ6ENF2001V+7+WW; Height: 0.4mm; Tolerance: 1%; Cost: 0.00203 @ 10K; Type: 0402 Passive; Voltage: *; Date Created: 11 Mar 2016; Last Modified: 11 Mar 2016
footprint R0402
pins: 1, 2

## RC1608F51R1CS
designator R?, comment 51.1r
RES SMD 51.1 OHM 1% 1/10W 0603; MFR: Samsung; MFR #: RC1608F51R1CS; PackageReference: 0603; Digikey #: 1276-4543-1-ND; PDF: http://www.samsungsem.com/global/support/library/product-catalog/__icsFiles/afieldfile/2015/01/12/CHIP_RESISTOR_150112_1.pdf; Value: 51.1r
simulation model RESISTOR (Resistor)
signal-integrity model Res
footprint R0603
pins: 1, 2

## RC1608F105CS
designator R?  (value not drawn)
RES SMD 1M OHM 1% 1/10W 0603; MFR: Samsung Electro-Mechanics America, Inc.; Pin Count #: 2; Lead-Free ?: Yes; Designer: Adam Vadala-Roth; MFR #: RC1608F105CS; Status: Availble; Mounting: SMT; Datasheet: https://media.digikey.com/pdf/Data%20Sheets/Samsung%20PDFs/RC_Series_ds.pdf; Height: 0.55mm; Tolerance: 1%; Cost: $0.00167; Type: Resistor Passive; Voltage: *; Date Created: 25 Feb 2016; Last Modified: 25 Feb 2016
footprint R0603
pins: 1, 2

## RC1608F184CS
designator R?  (value not drawn)
RES SMD 180K OHM 1% 1/10W 060; MFR: Samsung Electro-Mechanics America, Inc.; Pin Count #: 2; Lead-Free ?: Yes; Designer: Adam Vadala-Roth; MFR #: RC1608F184CS; Status: Availble; Mounting: SMT; Datasheet: https://media.digikey.com/pdf/Data%20Sheets/Samsung%20PDFs/RC_Series_ds.pdf; Height: 0.55mm; Tolerance: 1%; Cost: $0.00167; Type: Resistor Passive; Voltage: *; Date Created: 25 Feb 2016; Last Modified: 25 Feb 2016
footprint R0603
pins: 1, 2

## RC1608F1743CS
designator R?, comment 174K
RES SMD 174K OHM 1% 1/10W 0603; MFR: Samsung; MFR #: RC1608F1743CS; PackageReference: 0603; Digikey #: 1276-4857-1-ND; PDF: http://www.samsungsem.com/global/support/library/product-catalog/__icsFiles/afieldfile/2015/01/12/CHIP_RESISTOR_150112_1.pdf; Value: 174K
simulation model RESISTOR (Resistor)
signal-integrity model Res
footprint R0603
pins: 1, 2

## RC1608F2742CS
designator R?, comment 27.4k
RES SMD 27.4K OHM 1% 1/10W 0603; MFR: Samsung; MFR #: RC1608F2742CS; PackageReference: 0603; Digikey #: 1276-4782-1-ND; PDF: http://www.samsungsem.com/global/support/library/product-catalog/__icsFiles/afieldfile/2015/01/12/CHIP_RESISTOR_150112_1.pdf; Value: 27.4k
simulation model RESISTOR (Resistor)
signal-integrity model Res
footprint R0603
pins: 1, 2

## RC1608F3013CS
designator R?, comment 301K
RES SMD 301K OHM 1% 1/10W 0603; MFR: Samsung; MFR #: RC1608F3013CS; PackageReference: 0603; Digikey #: 1276-4881-1-ND; PDF: http://www.samsungsem.com/global/support/library/product-catalog/__icsFiles/afieldfile/2015/01/12/CHIP_RESISTOR_150112_1.pdf; Value: 301K
simulation model RESISTOR (Resistor)
signal-integrity model Res
footprint R0603
pins: 1, 2

## RC1608F3162CS
designator R?, comment 31.6K
RES SMD 31.6K OHM 1% 1/10W 0603; MFR: Samsung; MFR #: RC1608F3162CS; PackageReference: 0603; Digikey #: 1276-4788-1-ND; PDF: http://www.samsungsem.com/global/support/library/product-catalog/__icsFiles/afieldfile/2015/01/12/CHIP_RESISTOR_150112_1.pdf; Value: 31.6K
simulation model RESISTOR (Resistor)
signal-integrity model Res
footprint R0603
pins: 1, 2

## RC1608J103CS
designator R?, comment 10k
RES SMD 10K OHM 5% 1/10W 0603; MFR: Samsung; MFR #: RC1608J103CS; PackageReference: 0603; Digikey #: 1276-5086-1-ND; PDF: http://www.samsungsem.com/global/support/library/product-catalog/__icsFiles/afieldfile/2015/01/12/CHIP_RESISTOR_150112_1.pdf; Value: 10k
simulation model RESISTOR (Resistor)
signal-integrity model Res
footprint R0603
pins: 1, 2

## RR0510R-270-D
designator R?  value 27  (hidden comment: RR0510R-270-D)
RES SMD 27 OHM 0.5% 1/16W 0402; MFR: Susumu; Pin Count #: 2; Lead-Free ?: Yes; Designer: Adam Vadala-Roth; MFR #: RR0510R-270-D; Status: Active; Mounting: SMT/SMD; Datasheet: http://www.susumu-usa.com/pdf/RR_Data_Sheet.pdf; Height: 0.4mm; Tolerance: 0.5%; Cost: 0.00815 @ 10K; Type: 0402 Passive; Voltage: *; Date Created: 14 Mar 2016; Last Modified: 14 Mar 2016
footprint R0402
pins: 1, 2

## RU3216FR051CS
designator R?  (value not drawn)
RES SMD 0.051 OHM 1% 1/2W 1206 Current Sense Resistor*; MFR: Samsung Electro-Mechanics America, Inc.; Pin Count #: 2; Lead-Free ?: Yes; Designer: Adam Vadala-Roth; MFR #: RU3216FR051CS; Status: Available; Mounting: SMT; Datasheet: https://media.digikey.com/pdf/Data%20Sheets/Samsung%20PDFs/RU_Series_ds.pdf; Height: 0.7mm; Tolerance: 1%; Cost: 0.03300; Type: Resistor / Passive; Voltage: *; Date Created: 25 Feb 2016; Last Modified: 25 Feb 2016
footprint R1206
pins: 1, 2

## S2B-PH-K-S(LF)(SN)
designator J?
CONN HEADER PH SIDE 2POS 2MM; MFR: JST; Pin Count #: 2; Lead-Free ?: Yes; Designer: Adam Vadala-Roth; MFR #: S2B-PH-K-S(LF)(SN); Status: Available; Mounting: Throughhole; Datasheet: http://www.jst-mfg.com/product/pdf/eng/ePH.pdf; Height: *; Tolerance: *; Cost: $0.17; Type: Connector 2mm Pitch Shrouded Pin; Voltage: *; Date Created: 26 Feb 2016; Last Modified: 26 Feb 2016
footprint S2B-PH-K-S(LF)(SN)
pins: 1, 2

## S2B-PH-SM4-TB(LF)(SN)
designator P?
CONN HEADER PH SIDE 2POS 2MM SMD; MFR: JST; Pin Count #: 2; Lead-Free ?: YEs; Designer: Adam Vadala-Roth; MFR #: S2B-PH-SM4-TB(LF)(SN); Status: Available; Mounting: SMT; Datasheet: http://www.jst-mfg.com/product/pdf/eng/ePH.pdf; Height: 6.6mm; Cost: 0.22; Type: 2mm Pith Shroaded Pin Male Header; Voltage: *; Date Created: 25 Feb 2016; Last Modified: 25 Feb 2016
footprint S2B-PH-SM4-TB(LF)(SN) (CONN HEADER PH SIDE 2POS 2MM SMD)
pins: 1, 2

## S3B-PH-K-S(LF)(SN)
designator J?
CONN HEADER PH SIDE 2POS 2MM; MFR: JST; Pin Count #: 3; Lead-Free ?: Yes; Designer: Adam Vadala-Roth; MFR #: S3B-PH-K-S(LF)(SN); Status: Available; Mounting: Throughhole; Datasheet: http://www.jst-mfg.com/product/pdf/eng/ePH.pdf; Height: *; Tolerance: *; Cost: $0.17; Type: Connector 2mm Pitch Shrouded Pin; Voltage: *; Date Created: 11 Mar 2016; Last Modified: 11 Mar 2016
footprint S3B-PH-K-S(LF)(SN) (3 Pin right angle 2mm pitch shrouded male pin connector)
pins: 1, 2, 3

## SPM6530T-3R3M
designator L?  value 3.3uH  (hidden comment: SPM6530T-3R3M)
FIXED IND 3.3UH 6.8A 29.7 MOHM; MFR: TDK Corporation; Published: Feb 2016; LatestRevisionDate: Feb 2016; PackageReference: Custom Wound INductor; Publisher: Adam Vadala-Roth; PackageDescription: Wire Wound Inductor Package; MFR#: SPM6530T-3R3M
signal-integrity model Inductor
footprint SPM6530T-3R3M - INDP7165X30N (Precision Wire Wound Inductor, 2-Leads, Body 7.10x6.50mm, IPC Medium Density)
pins: 1, 2

## SRN4018-4R7M
designator L?
FIXED IND 4.7UH 1.9A 84 MOHM SMD; MFR: Bourns; Pin Count #: 2; Tolerance: +/-20%; Type: Inductor/Passive; Lead-Free ?: Yes; Designer: Adam Vadala-Roth; MFR #: SRN4018-4R7M; Status: Available; Mounting: SMT; Datasheet: http://www.bourns.com/docs/Product-Datasheets/SRN4018.pdf; Height: 1.8mm; Cost: $0.13300; Voltage: *; Date Created: 25 Feb 2016; Last Modified: 25 Feb 2016
footprint SRN4018-4R7M - INDP4040X18N (Precision Wire Wound Inductor, 2-Leads, Body 4.00x4.00mm, IPC Medium Density)
pins: 1, 2

## Standin 0402
designator R?, comment 100K
Standin 0402; MFR #: Standin O603; PackageReference: 0603; MFR: N/A; Digikey #: P100KHCT-ND; PDF: http://industrial.panasonic.com/www-cgi/jvcr13pz.cgi?E+PZ+3+AOA0002+ERJ3EKF1003V+7+WW; Value: 100K
simulation model RESISTOR (Resistor)
signal-integrity model Res
footprint R0402
pins: 1, 2

## Standin 0603
designator R?, comment 100K
Standin; MFR #: Standin O603; PackageReference: 0603; MFR: N/A; Digikey #: P100KHCT-ND; PDF: http://industrial.panasonic.com/www-cgi/jvcr13pz.cgi?E+PZ+3+AOA0002+ERJ3EKF1003V+7+WW; Value: 100K
simulation model RESISTOR (Resistor)
signal-integrity model Res
footprint R0603
pins: 1, 2

## TEMPLATE
designator *
MFR #: *; MFR: *; Status: *; Pin Count #: *; Mounting: *; Datasheet: *; Height: *; Tolerance: *; Cost: *; Type: *; Lead-Free ?: *; Voltage: *; Date Created: *; Last Modified: *; Designer: *

## TLV1117LV
designator U?
IC REG LDO 3.3V 1A SOT22; MFR#: TLV1117LV33DCYR; MFR: Texas Instruments; Datasheet: http://www.ti.com/lit/ds/symlink/tlv1117lv.pdf
footprint TLV1117LV - SOT230P700X180-4N (SOT223, 4-Leads, Body 6.50x7.00mm (avg), Pitch 2.30mm, IPC Medium Density)
pins: 1 GND, 2 VOUT, 3 VIN, 4 VOUT

## TPS7A7200RGTT
designator U?
footprint QFN50P300X300X100_HS-17N (QFN, 16-Leads, Body 3.00x3.00mm, Pitch 0.50mm, Thermal Pad 1.70x1.70mm, IPC Medium Density)
pins: 1 SNS, 2 FB, 3 PG, 4 50mV, 5 100mV, 6 200mV, 7 GND, 8 400mV, 9 800mV, 10 1.6V, 11 SS, 12 EN, 13 IN, 14 IN, 15 OUT, 16 OUT, 17 GND

## TPS796
designator U?, comment TPS79650DRBT
footprint QFN65P300X300X100_HS-17N (QFN, 16-Leads, Body 3.00x3.00mm, Pitch 0.65mm, Thermal Pad 2.40x1.65mm, IPC Medium Density)
pins: 1 IN, 2 IN, 3 OUT, 4 OUT, 5 NR/FB, 6 GND, 7 NC, 8 EN, 9 GND

## TPS2115A
designator U?
footprint DRB S-PVSON-N8 (QFN, 16-Leads, Body 3.00x3.00mm, Pitch 0.65mm, Thermal Pad 2.40x1.65mm, IPC Medium Density)
pins: 1 STAT, 2 D0, 3 D1, 4 ILIM, 5 IN1, 6 OUT, 7 IN2, 8 GND, 9 GND

## TPS2115ADRB
designator U?
MFR: Texas Instruments; Designer: Adam J Vadala-Roth; Date Created: 24-Feb-2016; MFR#: TPS2115ADRB; Type: Power Muxing IC with Autoswitching; Pin Count: 8; Height: *; Digikey Part #: 296-23394-2-ND; Price: $0.84 QTY=3000; Package: 8-VDFN Exposed Pad; Mounting: SMT/SMD
footprint TPS2115ADRB - QFN65P300X300X100_HS-9N (QFN, 8-Leads, Body 3.00x3.00mm, Pitch 0.65mm, Thermal Pad 1.65x2.40mm, IPC Medium Density)
pins: 1 STAT, 2 D0, 3 D1, 4 ILIM, 5 GND, 6 IN2, 7 OUT, 8 IN1

## TPS54062DRBT
designator *
IC REG BUCK SYNC ADJ 50MA DRBT; MFR#: TPS54062DRBT; MFR: Texas Instruments; Type: DCDC Switching Step Down Regulator IC
footprint QFN65P300X300X100_HS-17N (QFN, 16-Leads, Body 3.00x3.00mm, Pitch 0.65mm, Thermal Pad 1.65x2.40mm, IPC Medium Density)
pins: 1 BOOT, 2 VIN, 3 EN, 4 RT/CLK, 5 VSNS, 6 COMP, 7 GND, 8 PH, 9 GND-PAD

## TPS54226RGTR
designator *
TPS54226RGTR
footprint TPS54226  QFN50P300X300X100_HS-17N (QFN, 16-Leads, Body 3.00x3.00mm, Pitch 0.50mm, Thermal Pad 1.66x1.66mm, IPC Medium Density)
pins: 1 VFB, 2 VREG5, 3 SS, 4 GND, 5 PG, 6 EN, 7 PGND1, 8 PGND2, 9 SW1, 10 SW2, 11 SW3, 12 VBST, 13 VIN1, 14 VIN2, 15 VCC, 16 VO, 17 GND

## TPS54327 - DCDC Regulator
designator *
footprint TPS54327 (QFN, 18-Leads, Body 3.00x3.00mm, Pitch 0.50mm, Thermal Pad 2.40x1.65mm, IPC Medium Density)
pins: 1 EN, 2 VFB, 3 VREG5, 4 SS, 5 GND, 6 SW, 7 SW, 8 VBST, 9 VIN, 10 VIN, 11 GND

## TPS62162DSG
designator *
footprint TPS62162DSG (QFN, 16-Leads, Body 2.00x2.00mm, Pitch 0.50mm, Thermal Pad 0.90x1.60mm, IPC Medium Density)
pins: 1 PGND, 2 VIN, 3 EN, 4 AGND, 5 FB, 6 VOS, 7 SW, 8 PG

## TPS63020
designator U?, comment TPS63020DSJR
IC REG BUCK BST ADJ 3.5A 14VSON; MFR: Texas Instruments; Designer: Adam J Vadala-Roth; Descrition: IC REG BUCK BST ADJ 3.5A 14VSON; Date Created: 24 Feb 2016; MFR#: TPS63020DSJR; Price: $1.46 @ 3000; Mounting: SMT; Digikey #: 296-36491-2-ND; Height: *; Type: IC
footprint TPS63020 - QFN50P400X300X100-22N (QFN, 22-Leads, Body 4.00x3.00mm, Pitch 0.50mm, IPC Medium Density)
pins: 1 VINA, 2 GND, 3 FB, 4 VOUT, 5 VOUT, 6 L2, 7 L2, 8 L1, 9 L1, 10 VIN, 11 VIN, 12 EN, 13 PS/SYNC, 14 PG, 15 PGND-PAD

## TPS73733-Q1
designator U?, comment TPS73733QDRBRQ1
footprint QFN65P300X300X100_HS-17N - smaller pad (QFN, 16-Leads, Body 3.00x3.00mm, Pitch 0.65mm, Thermal Pad 1.75x1.50mm, IPC Medium Density)
pins: 1 OUT, 2 NC, 3 NR/FB, 4 GND, 5 EN, 6 NC, 7 NC, 8 IN, 9 GND

## VEML6070
designator U?
IC UV LIGHT SENSOR I2C 8OPLGA; MFR: Vishay; Pin Count #: 8; Lead-Free ?: Yes; Voltage: 1.7-5.5VDC; Designer: Adam Vadala-Roth; MFR #: VEML6070; Status: Active; Mounting: SMT/SMD; Datasheet: http://www.vishay.com/docs/84277/veml6070.pdf; Height: 1; Tolerance: *; Cost: *; Type: IC , Dual Flat Package No Leads; Date Created: 9 Mar 2016; Last Modified: 9 Mar 2016
footprint VEML6070 - QFN60P180X235X110-6N (QFN, 6-Leads, Body 1.80x2.35mm, Pitch 0.60mm, IPC Medium Density)
pins: 1 GND, 2 ACK, 3 SDA, 4 RSET, 5 SCL, 6 VDD

## VLS252012T-2R2M1R3
designator L?  value 2.2uH  (hidden comment: VLS252012T-2R2M1R3)
MFR: TDK Corporation; Published: April 2015; LatestRevisionDate: April 2015; LatestRevisionNote: IPC-7351 Footprint Added.; PackageReference: Custom Wound INductor; Publisher: Adam Vadala-Roth; PackageDescription: Wire Wound Inductor Package; MFR#: VLS252012T-2R2M1R3
signal-integrity model Inductor
pins: 1, 2

## XFL4020-152ML
designator L?
MFR #: Coilcraft; Pin Count #: 2; Type: Wire Wound Inductor; Lead-Free ?: Yes; Designer: Adam Vadala-Roth; MFR: Coilcraft; Status: Available; Mounting: SMT; Datasheet: http://www.coilcraft.com/pdfs/xfl4020.pdf; Height: 2.10mm; Tolerance: *; Cost: $0.45 @5000; Voltage: *; Date Created: 25 Feb 2016; Last Modified: 25 Feb 2016
footprint XFL4020-152ML - INDP4040X21N (Precision Wire Wound Inductor, 2-Leads, Body 4.00x4.00mm, IPC Medium Density)
pins: 1, 2

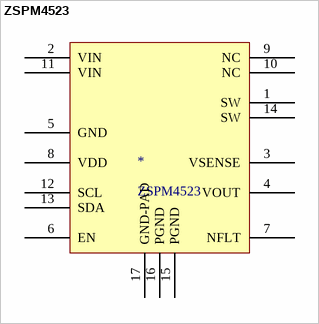
[diagram p3: symbol ZSPM4523]

## ZSPM4523
designator *
ZSPM4523 Charge Controller; MFR: ZMDI; Designer: Adam J Vadala-Roth; MFR #: ZSPM4523; Pins: 16; Type: IC; Date Created: 24-Feb-2016; Mounting: SMT; Package: QFN; Price: *
footprint ZSPM4523 - QFN65P400X400X100_HS-17N (QFN, 16-Leads, Body 4.00x4.00mm, Pitch 0.65mm, Thermal Pad 2.68x2.68mm, IPC Medium Density)
pins: 1 SW, 2 VIN, 3 VSENSE, 4 VOUT, 5 GND, 6 EN, 7 NFLT, 8 VDD, 9 NC, 10 NC, 11 VIN, 12 SCL, 13 SDA, 14 SW, 15 PGND, 16 PGND, 17 GND-PAD